# EAGLE library part DB9 (library SW_Connectors)
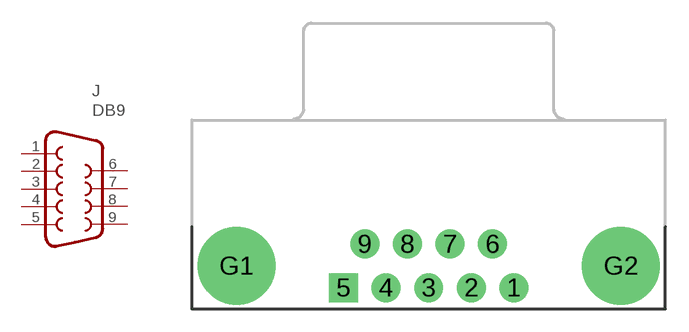
[diagram p9: symbol with the pads of DB9_MALE; footprint DB9_MALE]

Designator prefix J

## DB9MALE (CATEGORY: Connectors; DESCRIPTION: 9 Position D-Sub Plug, Male Pins Connector; MFGS: Adam Tech; MPNS: DE09-PL-25; PACKAGE: DB9; PART_NUMBER: DE09-PL-25; SW_PART_NUMBER: SW0007806)  [DB9_MALE]
1  1  pas
2  2  pas
3  3  pas
4  4  pas
5  5  pas
6  6  pas
7  7  pas
8  8  pas
9  9  pas

## Footprint DB9_MALE (pad centres in mm)
9 Pin Serial Connector - Male PCB Mount Right Angle 0.318" style. Specifications: Pin count:11 Datasheet referenced for footprint <http://www.4uconnector.com/online/object/4udrawing/15944.pdf> Example device(s): DB9
drill 1.016 pad 1.88: 1 5.54,-1.42; 2 2.77,-1.42; 3 0,-1.42; 4 -2.77,-1.42; 6 4.15,1.42; 7 1.38,1.42; 8 -1.38,1.42; 9 -4.15,1.42
drill 1.016 pad 1.88 square: 5 -5.54,-1.42
drill 3.302 pad 5.08: G1 -12.5,0; G2 12.5,0